# EAGLE library part PIN_7 (library dooba)
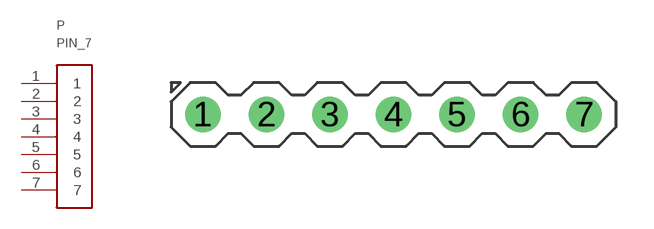
[diagram p7: symbol with the pads of PIN_7; footprint PIN_7]

Designator prefix P

## PIN_7  [PIN_7]
1  1
2  2
3  3
4  4
5  5
6  6
7  7

## Footprint PIN_7 (pad centres in mm)
drill 0.8 pad 1.422: 1 -7.62,0; 2 -5.08,0; 3 -2.54,0; 4 0,0; 5 2.54,0; 6 5.08,0; 7 7.62,0